# EAGLE library part LM358 (library my_devices)
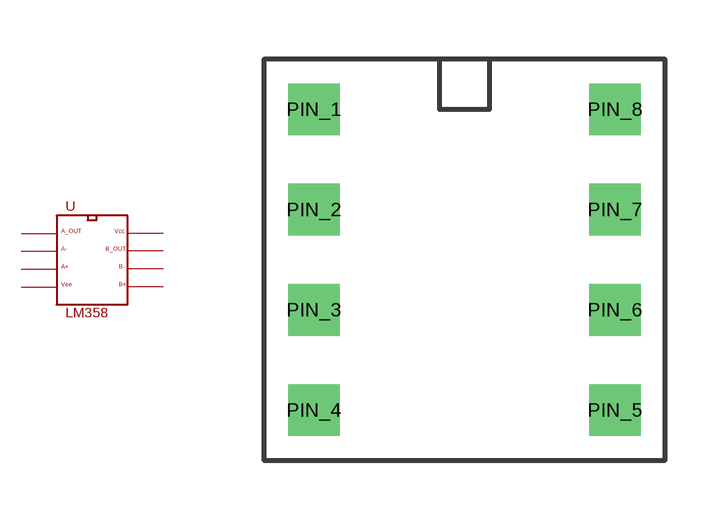
[diagram p9: symbol with the pads of DIP8; footprint DIP8]

Designator prefix U

## LM358  [DIP8]
PIN_1  A_OUT  out
PIN_2  A-  in
PIN_3  A+  in
PIN_4  VEE  pwr
PIN_5  B+  in
PIN_6  B-  in
PIN_7  B_OUT  out
PIN_8  VCC  pwr

## Footprint DIP8 (pad centres in mm)
drill 0.8 square: PIN_1 -3.81,3.81; PIN_2 -3.81,1.27; PIN_3 -3.81,-1.27; PIN_4 -3.81,-3.81; PIN_5 3.81,-3.81; PIN_6 3.81,-1.27; PIN_7 3.81,1.27; PIN_8 3.81,3.81